# EAGLE library part PCM2702 (library wheat)
PCM2702 BURR-BROWN
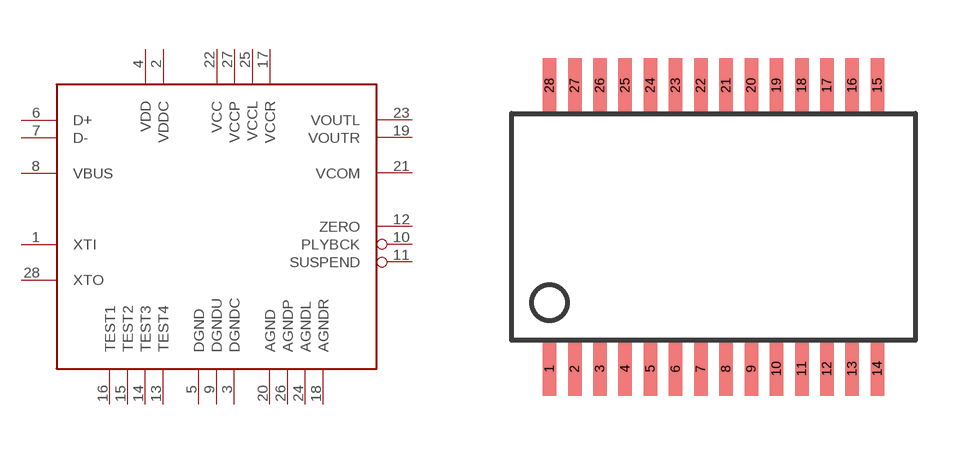
[diagram p8: symbol with the pads of SSOP28; footprint SSOP28]

Designator prefix U

## PCM2702  [SSOP28]
1  XTI  in
2  VDDC  pwr
3  DGNDC  pwr
4  VDD  pwr
5  DGND  pwr
6  D+
7  D-
8  VBUS  in
9  DGNDU  pwr
10  PLYBCK  out
11  SUSPEND  out
12  ZERO  out
13  TEST4  in
14  TEST3  in
15  TEST2  in
16  TEST1  in
17  VCCR  pwr
18  AGNDR  pwr
19  VOUTR  out
20  AGND  pwr
21  VCOM  out
22  VCC  pwr
23  VOUTL  out
24  AGNDL  pwr
25  VCCL  pwr
26  AGNDP  pwr
27  VCCP  pwr
28  XTO  out

## Footprint SSOP28 (pad centres in mm)
SSOP28
smd 0.348 x 1.397: 1 -4.225,-3.656; 2 -3.575,-3.656; 3 -2.925,-3.656; 4 -2.275,-3.656; 5 -1.625,-3.656; 6 -0.975,-3.656; 7 -0.325,-3.656; 8 0.325,-3.656; 9 0.975,-3.656; 10 1.625,-3.656; 11 2.275,-3.656; 12 2.925,-3.656; 13 3.575,-3.656; 14 4.225,-3.656; 15 4.225,3.656; 16 3.575,3.656; 17 2.925,3.656; 18 2.275,3.656; 19 1.625,3.656; 20 0.975,3.656; 21 0.325,3.656; 22 -0.325,3.656; 23 -0.975,3.656; 24 -1.625,3.656; 25 -2.275,3.656; 26 -2.925,3.656; 27 -3.575,3.656; 28 -4.225,3.656